# Altium schematic symbol library 484-5100.SCHLIB: 1 symbol
Pins are listed as number, name and electrical type; pins without a type are passive.

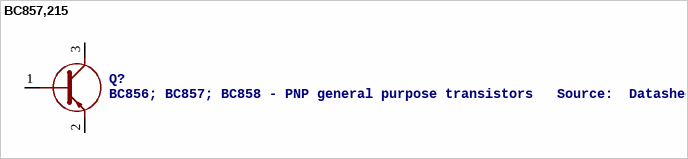
[diagram p0: symbol BC857,215]

## BC857,215
designator Q?, comment BC856; BC857; BC858 - PNP general purpose transistors   Source:  Datasheet
Manufacturer_Name: Nexperia; Manufacturer_Part_Number: BC857,215; Mouser_Part_Number: 771-BC857215; Mouser_Price-Stock: https://www.mouser.co.uk/ProductDetail/Nexperia/BC857215?qs=me8TqzrmIYWtuVsCNoXfHg%3D%3D; Arrow_Part_Number: BC857,215; Arrow_Price-Stock: https://www.arrow.com/en/products/bc857215/nexperia?region=nac; Description: BC856; BC857; BC858 - PNP general purpose transistors; Height: 1.1mm
footprint SOT95P230X110-3N
pins: 1 B (io), 2 E (io), 3 C (io)